# Altium schematic symbol library SG_SCH_Nazarenko.SchLib: 11 symbols
Pins are listed as number, name and electrical type; pins without a type are passive.

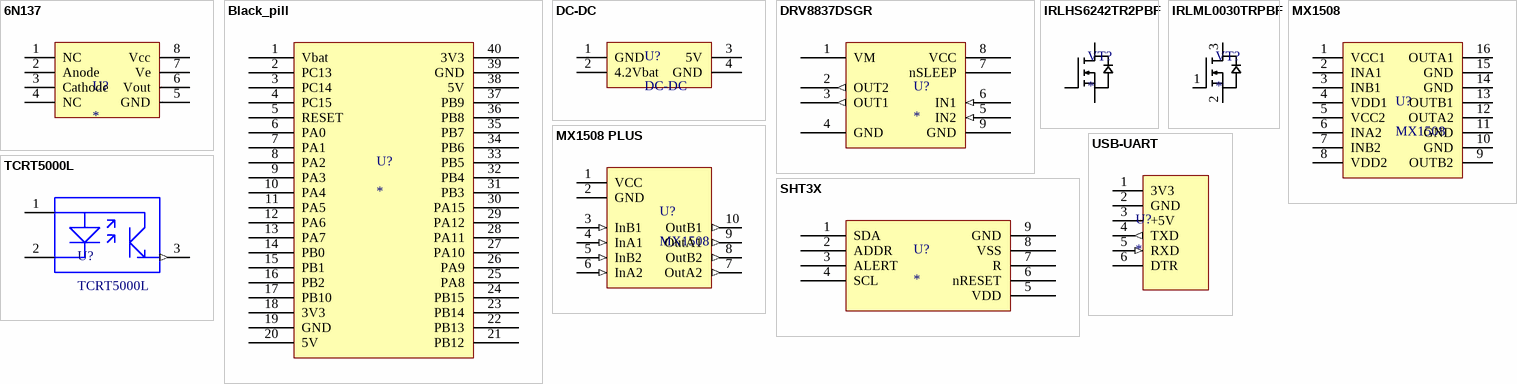
[diagram p0: symbols 6N137 to USB-UART]

## 6N137
designator U?
smd-8
footprint 6N137
pins: 1 NC, 2 Anode, 3 Cathode, 4 NC, 5 GND, 6 Vout, 7 Ve, 8 Vcc

## Black_pill
designator U?
footprint Black_Pill
pins: 1 Vbat, 2 PC13, 3 PC14, 4 PC15, 5 RESET, 6 PA0, 7 PA1, 8 PA2, 9 PA3, 10 PA4, 11 PA5, 12 PA6, 13 PA7, 14 PB0, 15 PB1, 16 PB2, 17 PB10, 18 3V3, 19 GND, 20 5V, 21 PB12, 22 PB13, 23 PB14, 24 PB15, 25 PA8, 26 PA9, 27 PA10, 28 PA11, 29 PA12, 30 PA15, 31 PB3, 32 PB4, 33 PB5, 34 PB6, 35 PB7, 36 PB8, 37 PB9, 38 5V, 39 GND, 40 3V3

## DC-DC
designator U?
2.5-11.5 -> 5,8,9,12
footprint DC-DC
pins: 1 GND, 2 4.2Vbat, 3 5V, 4 GND

## DRV8837DSGR
designator U?
footprint DRV8837DSGR
pins: 1 VM (power), 2 OUT2 (out), 3 OUT1 (out), 4 GND (power), 5 IN2 (in), 6 IN1 (in), 7 nSLEEP, 8 VCC (power), 9 GND (power)

## IRLHS6242TR2PBF
designator VT?
footprint IRLHS6242TR2PBF
pins: 1, 2, 3, 4 3, 5, 6, 7, 8 3

## IRLML0030TRPBF
designator VT?
footprint IRLML0030TRPBF (SOT23, 3-Leads, Body 2,90x2,37mm, Pitch 0,95mm, IPC Medium Density)
pins: 1, 2 3, 3

## MX1508
designator U?
footprint MX1508 (SOP, 16-Leads, Body 9,90x3,90mm, Pitch 1,27mm, IPC Medium Density)
pins: 1 VСС1 (power), 2 INA1 (power), 3 INB1 (power), 4 VDD1 (power), 5 VCC2, 6 INA2, 7 INB2, 8 VDD2, 9 OUTB2, 10 GND, 11 GND, 12 OUTA2, 13 OUTB1, 14 GND, 15 GND, 16 OUTA1

## MX1508 PLUS
designator U?, comment MX1508
pins: 1 VCC (power), 2 GND (power), 3 InB1 (in), 4 InA1 (in), 5 InB2 (in), 6 InA2 (in), 7 OutA2 (out), 8 OutB2 (out), 9 OutA1 (out), 10 OutB1 (out)

## SHT3X
designator U?
footprint SHT3X
pins: 1 SDA, 2 ADDR, 3 ALERT, 4 SCL, 5 VDD, 6 nRESET, 7 R, 8 VSS, 9 GND

## TCRT5000L
designator U?
footprint TCRT5000
pins: 1 11 (power), 2 12 (power), 3 (out)

## USB-UART
designator U?
footprint USB-UART
pins: 1 3V3, 2 GND, 3 +5V, 4 TXD (out), 5 RXD (in), 6 DTR (power)